# Altium schematic symbol library JTAG_Channel_Selector.SchLib: 1 symbol
Pins are listed as number, name and electrical type; pins without a type are passive.

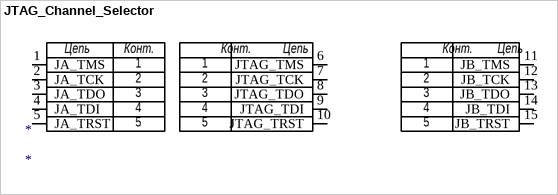
[diagram p0: symbol JTAG_Channel_Selector]

## JTAG_Channel_Selector
designator *
footprint JTAG_Channel_Selector
pins: 1 JA_TMS, 2 JA_TCK, 3 JA_TDO, 4 JA_TDI, 5 JA_TRST, 6 JTAG_TMS, 7 JTAG_TCK, 8 JTAG_TDO, 9 JTAG_TDI, 10 JTAG_TRST, 11 JB_TMS, 12 JB_TCK, 13 JB_TDO, 14 JB_TDI, 15 JB_TRST
text: Цепь; Конт.